# EAGLE library part MAX6684 (library maxim-integrated)
Fan-Failure Detector with Integrated Power Switch The MAX6684 is an integrated fan-failure detector that detects when a fan exhibits excessive underspeed or a locked rotor. This device is especially well suited for critical systems where no fan control, or simple on/off control is desired. The MAX6684 detects fan failure by evaluating fluctuations in current at the low side of the fan; no tachometer signal is necessary. The output of the device, FAIL, is an active-low, open-drain alarm. The MAX6684 can also be used to switch the fan on or off, based on the state of a logic-level input, OFF. This device can be used with fans rated at up to 24V and 250mA. The MAX6684 is available in an 8-pin SO package, and is specified for operation from -40°C to +85°C.
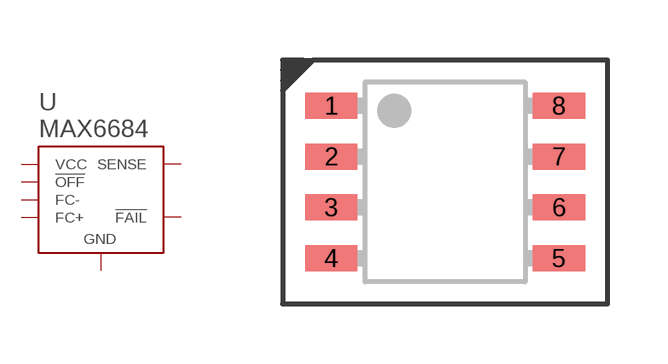
[diagram p1: symbol with the pads of SO8; footprint SO8]

Designator prefix U

## MAX6684  [SO8]
1  SENSE
2  !FAIL
3  GND  pwr
4  FC-
5  FC+
6  VCC  pwr
7  !OFF
8  GND  pwr

## Footprint SO8 (pad centres in mm)
smd 1.31 x 0.65: 1 -2.845,1.905; 2 -2.845,0.635; 3 -2.845,-0.635; 4 -2.845,-1.905; 5 2.845,-1.905; 6 2.845,-0.635; 7 2.845,0.635; 8 2.845,1.905